# Altium schematic symbol library Schematic_Emile.SchLib: 17 symbols
Pins are listed as number, name and electrical type; pins without a type are passive.

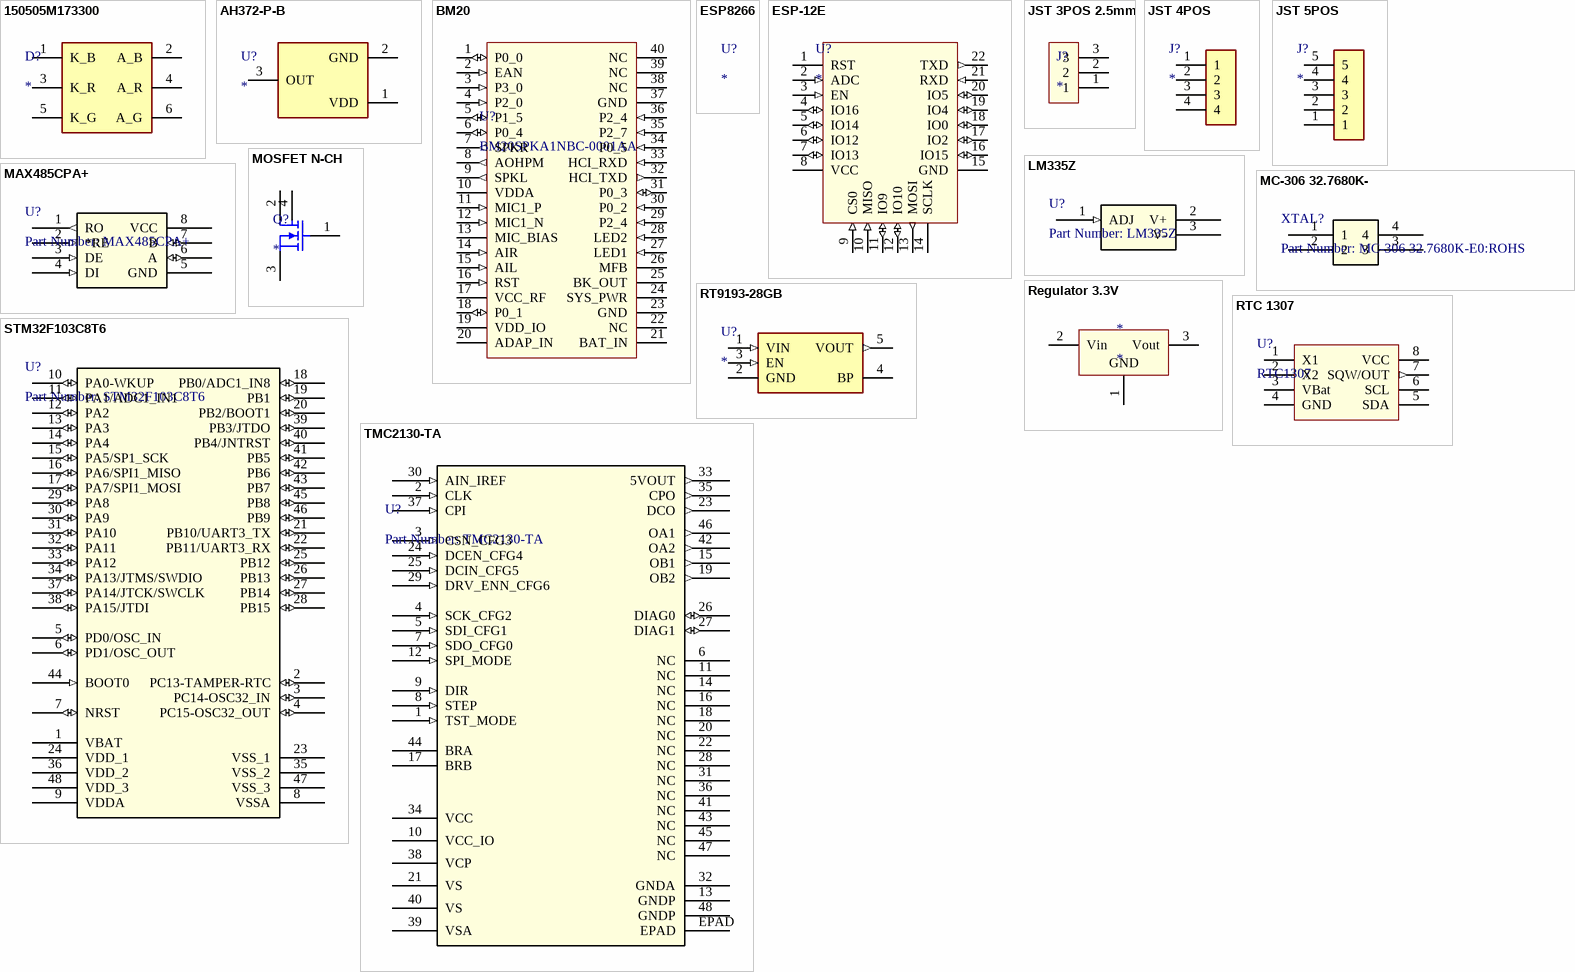
[diagram p0: symbols 150505M173300 to TMC2130-TA]

## 150505M173300
designator D?
LED; Manufacturer_Name: Wurth Elektronik; Manufacturer_Part_Number: 150505M173300; Datasheet Link: https://katalog.we-online.de/led/datasheet/150505M173300.pdf; Height: 1.8mm; Mouser Part Number: 710-150505M173300; Mouser Price/Stock: https://www.mouser.com/Search/Refine.aspx?Keyword=710-150505M173300; RS Part Number: 1766248P; RS Price/Stock: http://uk.rs-online.com/web/p/products/1766248P
footprint 150505M173300
pins: 1 K_B, 2 A_B, 3 K_R, 4 A_R, 5 K_G, 6 A_G

## AH372-P-B
designator U?
Hall Sensor; Manufacturer_Name: Diodes Inc.; Manufacturer_Part_Number: AH372-P-B; Datasheet Link: https://www.mouser.com/datasheet/2/115/AH372-1317530.pdf; Height: 4.75mm; Mouser Part Number: 621-AH372-P-B; Mouser Price/Stock: https://www.mouser.com/Search/Refine.aspx?Keyword=621-AH372-P-B; RS Part Number: 1333361P; RS Price/Stock: http://uk.rs-online.com/web/p/products/1333361P
footprint AH372PB
pins: 1 VDD, 2 GND, 3 OUT

## BM20
designator U?, comment BM20SPKA1NBC-0001AA
Manufacturer: Microchip; ComponentLink1Description: Digikey; ComponentLink1URL: https://www.digikey.ca/product-detail/en/microchip-technology/BM20SPKA1NBC-0001AA/BM20SPKA1NBC-0001AA-ND/5323463; ManufacturerPartNumber: BM20SPKA1NBC-0001AA; MountingType: SMT
footprint U_BM20SPKA
pins: 1 P0_0 (io), 2 EAN (in), 3 P3_0 (in), 4 P2_0 (in), 5 P1_5 (io), 6 P0_4 (io), 7 SPKR (out), 8 AOHPM (out), 9 SPKL (out), 10 VDDA (power), 11 MIC1_P (in), 12 MIC1_N (in), 13 MIC_BIAS (power), 14 AIR (in), 15 AIL (in), 16 RST (in), 17 VCC_RF (power), 18 P0_1 (io), 19 VDD_IO (power), 20 ADAP_IN (power), 21 BAT_IN (power), 22 NC, 23 GND (power), 24 SYS_PWR (power), 25 BK_OUT (power), 26 MFB, 27 LED1 (in), 28 LED2 (in), 29 P2_4 (in), 30 P0_2 (in), 31 P0_3 (io), 32 HCI_TXD (out), 33 HCI_RXD (in), 34 P0_5 (in), 35 P2_7 (in), 36 P2_4 (in), 37 GND (power), 38 NC, 39 NC, 40 NC

## ESP8266
designator U?

## ESP-12E
designator U?
pins: 1 RST, 2 ADC (in), 3 EN (in), 4 IO16 (io), 5 IO14 (io), 6 IO12 (io), 7 IO13 (io), 8 VCC (power), 9 CS0 (in), 10 MISO (in), 11 IO9 (io), 12 IO10 (io), 13 MOSI (out), 14 SCLK, 15 GND (power), 16 IO15 (io), 17 IO2 (io), 18 IO0 (io), 19 IO4 (io), 20 IO5 (io), 21 RXD (in), 22 TXD (out)

## JST 3POS 2.5mm
designator J?
Connector; ComponentLink1Description: Datasheet; ComponentLink1URL: http://www.jst-mfg.com/product/pdf/eng/eXH.pdf; ComponentLink2Description: Digikey; ComponentLink2URL: https://www.digikey.ca/product-detail/en/S3B-XH-A(LF)(SN)/455-2250-ND/1651048/?itemSeq=318542324
footprint JST 3POS 2.5mm 90°
pins: 1, 2, 3

## JST 4POS
designator J?
Connector; Manufacturer_Name: JST (JAPAN SOLDERLESS TERMINALS); Manufacturer_Part_Number: S4B-XH-A(LF)(SN); Datasheet Link: http://www.jst-mfg.com/product/pdf/eng/eXH.pdf; Height: 7mm; RS Part Number: 8201589P; RS Price/Stock: http://uk.rs-online.com/web/p/products/8201589P
footprint SHDR4W64P0X250_1X4_1240X1155X700P
pins: 1, 2, 3, 4

## JST 5POS
designator J?
Connector; Manufacturer_Name: JST (JAPAN SOLDERLESS TERMINALS); Manufacturer_Part_Number: S5B-XH-A-1(LF)(SN); Datasheet Link: http://www.jst-mfg.com/product/pdf/eng/eXH.pdf; Height: 6.1mm
footprint S5BXHA1LFSN
pins: 1, 2, 3, 4, 5

## LM335Z
designator U?, comment Part Number: LM335Z
Temperature Sensor; VENDOR: STMicroelectronics; Built_By: EMA_UL_Team; MANUFACTURER_PART_NUMBER: LM335Z; Copyright: Copyright (C) 2018 Accelerated Designs. All rights reserved; RefDes: RefDes; Type: DEV; Value: Value
footprint TO92
pins: 1 ADJ (in), 2 V+ (power), 3 V- (power)

## MAX485CPA+
designator U?, comment Part Number: MAX485CPA+
RS485 Communication; Vendor: Maxim Integrated Products; Built_By: EMA_UL_Team; Manufacturer_Part_Number: MAX485CPA+; Copyright: Copyright (C) 2018 Accelerated Designs. All rights reserved; RefDes: RefDes; Type: DEV; Value: Value
footprint 21-0043D_8
pins: 1 RO (out), 2 *RE (in), 3 DE (in), 4 DI (in), 5 GND (power), 6 A (io), 7 B (io), 8 VCC (power)

## MC-306 32.7680K-
designator XTAL?, comment Part Number: MC-306 32.7680K-E0:ROHS
Crystal / Oscillator 32.768KHz for low power consumption; Built_By: EMA_Matt; Vendor: Epson; Manufacturer_Part_Number: MC-306 32.7680K-E0:ROHS; Copyright: Copyright (C) 2018 Accelerated Designs. All rights reserved; RefDes: RefDes; Type: DEV; Value: Value
footprint XTAL_0:ROHS
pins: 1, 2, 3, 4

## MOSFET N-CH
designator Q?
55V 7A SOT223; ComponentLink1Description: Datasheet; ComponentLink1URL: https://assets.nexperia.com/documents/data-sheet/BUK9880-55A.pdf; ComponentLink2Description: Digikey; ComponentLink2URL: https://www.digikey.ca/product-detail/en/BUK9880-55A%2fCUX/1727-2230-1-ND/5361200/?itemSeq=318542302
footprint SOT223_M (SOT223, 4-Leads, Body 6.5x3.5mm, Pitch 2.3mm, Lead Span 7mm, IPC Low Density)
pins: 1 G, 2 D, 3 S, 4 D

## Regulator 3.3V
designator *
footprint Model Name (Footprint not found)
pins: 1 GND, 2 Vin, 3 Vout

## RT9193-28GB
designator U?
Voltage Regulator 3.3V; Manufacturer_Name: RICHTEK; Manufacturer_Part_Number: RT9193-28GB; Datasheet Link: https://componentsearchengine.com/Datasheets/2/RT9193-28GB.pdf; Height: 1.295mm
footprint SOT94P279X130-5N
pins: 1 VIN (in), 2 GND (power), 3 EN (in), 4 BP, 5 VOUT (out)

## RTC 1307
designator U?, comment RTC1307
Real Time Clock
footprint DIP 8
pins: 1 X1, 2 X2, 3 VBat (power), 4 GND (power), 5 SDA, 6 SCL, 7 SQW/OUT (out), 8 VCC (power)

## STM32F103C8T6
designator U?, comment Part Number: STM32F103C8T6
Integrated Circuit STM32; Vendor: STMicroelectronics; Built_By: EMA_UL_Team; Manufacturer_Part_Number: STM32F103C8T6; Copyright: Copyright (C) 2018 Accelerated Designs. All rights reserved; RefDes: RefDes; Type: DEV; Value: Value
footprint LQFP-48
pins: 1 VBAT (power), 2 PC13-TAMPER-RTC (io), 3 PC14-OSC32_IN (io), 4 PC15-OSC32_OUT (io), 5 PD0/OSC_IN (io), 6 PD1/OSC_OUT (io), 7 NRST (io), 8 VSSA (power), 9 VDDA (power), 10 PA0-WKUP (io), 11 PA1/ADC1_IN1 (io), 12 PA2 (io), 13 PA3 (io), 14 PA4 (io), 15 PA5/SP1_SCK (io), 16 PA6/SPI1_MISO (io), 17 PA7/SPI1_MOSI (io), 18 PB0/ADC1_IN8 (io), 19 PB1 (io), 20 PB2/BOOT1 (io), 21 PB10/UART3_TX (io), 22 PB11/UART3_RX (io), 23 VSS_1 (power), 24 VDD_1 (power), 25 PB12 (io), 26 PB13 (io), 27 PB14 (io), 28 PB15 (io), 29 PA8 (io), 30 PA9 (io), 31 PA10 (io), 32 PA11 (io), 33 PA12 (io), 34 PA13/JTMS/SWDIO (io), 35 VSS_2 (power), 36 VDD_2 (power), 37 PA14/JTCK/SWCLK (io), 38 PA15/JTDI (io), 39 PB3/JTDO (io), 40 PB4/JNTRST (io), 41 PB5 (io), 42 PB6 (io), 43 PB7 (io), 44 BOOT0 (in), 45 PB8 (io), 46 PB9 (io), 47 VSS_3 (power), 48 VDD_3 (power)

## TMC2130-TA
designator U?, comment Part Number: TMC2130-TA
Motor Driver TMC2130; Built_By: EMA_Jessica; Vendor: TRINAMIC; Copyright: Copyright (C) 2016 Accelerated Designs. All rights reserved; Manufacturer_Part_Number: TMC2130-TA; RefDes: RefDes; Type: DEV; Value: Value
footprint eTQFP48_9x9
pins: 1 TST_MODE (in), 2 CLK (in), 3 CSN_CFG3 (in), 4 SCK_CFG2 (in), 5 SDI_CFG1 (in), 6 NC, 7 SDO_CFG0 (in), 8 STEP (in), 9 DIR (in), 10 VCC_IO (power), 11 NC, 12 SPI_MODE (in), 13 GNDP (power), 14 NC, 15 OB1 (out), 16 NC, 17 BRB, 18 NC, 19 OB2 (out), 20 NC, 21 VS (power), 22 NC, 23 DCO (out), 24 DCEN_CFG4 (in), 25 DCIN_CFG5 (in), 26 DIAG0 (io), 27 DIAG1 (io), 28 NC, 29 DRV_ENN_CFG6 (in), 30 AIN_IREF (in), 31 NC, 32 GNDA (power), 33 5VOUT (out), 34 VCC (power), 35 CPO (out), 36 NC, 37 CPI (in), 38 VCP (power), 39 VSA (power), 40 VS (power), 41 NC, 42 OA2 (out), 43 NC, 44 BRA, 45 NC, 46 OA1 (out), 47 NC, 48 GNDP (power), EPAD